# Altium schematic symbol library WE-DPC.SchLib: 29 symbols
Pins are listed as number, name and electrical type; pins without a type are passive.

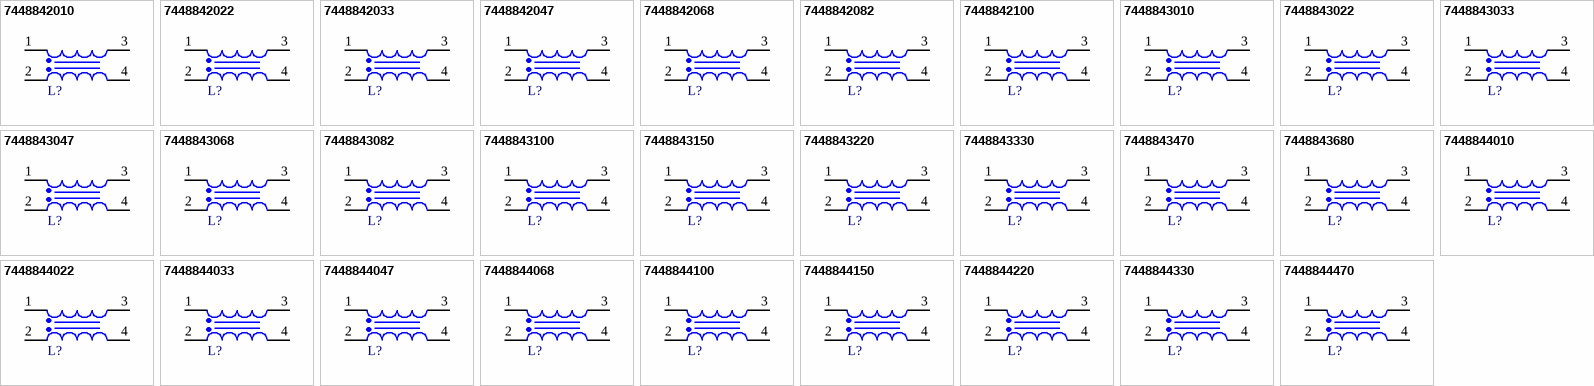
[diagram p0: symbols 7448842010 to 7448844470]

## 7448842010
designator L?, comment 1µH, 1.8A  (value not drawn)
WE-DPC SMT Dual Powerchoke, size 4818, 1µH, 1.8A, 90mΩ; Manufacturer Part Number: 7448842010; Manufacturer: Wurth Elektronik; Case/Size Code: 4818; DC Resistance 1: 75mΩ; Rated Voltage: 80V; Saturation Current: 5A; Self Resonant Frequency: 80MHz; Turns Ratio: 1:1; Category: Coupled Power Inductors; Match Code: WE-DPC; ComponentLink1Description: Website Link; ComponentLink1URL: https://www.we-online.com/redexpert/article/7448842010?ad; ComponentLink2Description: Datasheet Link; ComponentLink2URL: https://www.we-online.com/redexpert/spec/7448842010?ad; Mount: Surface Mount; Operating Temperature Max: 125°C; Operating Temperature Min: -40°C; Packaging: Tape and Reel; Length: 4.8mm; Width: 4.8mm; Height: 1.8mm; DC Resistance 2: 75mΩ; DC Resistance Max 1: 90mΩ; DC Resistance Max 2: 90mΩ; Inductance 1: 1µH; Inductance 2: 1µH; Rated Current 1: 1.8A; Rated Current 2: 1.8A
footprint WE-DPC_4818
pins: 1, 2, 3, 4

## 7448842022
designator L?, comment 2.2µH, 1.68A  (value not drawn)
WE-DPC SMT Dual Powerchoke, size 4818, 2.2µH, 1.68A, 163mΩ; Manufacturer Part Number: 7448842022; Manufacturer: Wurth Elektronik; Case/Size Code: 4818; DC Resistance 1: 135mΩ; Rated Voltage: 80V; Saturation Current: 3.5A; Self Resonant Frequency: 65MHz; Turns Ratio: 1:1; Category: Coupled Power Inductors; Match Code: WE-DPC; ComponentLink1Description: Website Link; ComponentLink1URL: https://www.we-online.com/redexpert/article/7448842022?ad; ComponentLink2Description: Datasheet Link; ComponentLink2URL: https://www.we-online.com/redexpert/spec/7448842022?ad; Mount: Surface Mount; Operating Temperature Max: 125°C; Operating Temperature Min: -40°C; Packaging: Tape and Reel; Length: 4.8mm; Width: 4.8mm; Height: 1.8mm; DC Resistance 2: 135mΩ; DC Resistance Max 1: 163mΩ; DC Resistance Max 2: 163mΩ; Inductance 1: 2.2µH; Inductance 2: 2.2µH; Rated Current 1: 1.68A; Rated Current 2: 1.68A
footprint WE-DPC_4818
pins: 1, 2, 3, 4

## 7448842033
designator L?, comment 3.3µH, 1.3A  (value not drawn)
WE-DPC SMT Dual Powerchoke, size 4818, 3.3µH, 1.3A, 205mΩ; Manufacturer Part Number: 7448842033; Manufacturer: Wurth Elektronik; Case/Size Code: 4818; DC Resistance 1: 170mΩ; Rated Voltage: 80V; Saturation Current: 2.6A; Self Resonant Frequency: 55MHz; Turns Ratio: 1:1; Category: Coupled Power Inductors; Match Code: WE-DPC; ComponentLink1Description: Website Link; ComponentLink1URL: https://www.we-online.com/redexpert/article/7448842033?ad; ComponentLink2Description: Datasheet Link; ComponentLink2URL: https://www.we-online.com/redexpert/spec/7448842033?ad; Mount: Surface Mount; Operating Temperature Max: 125°C; Operating Temperature Min: -40°C; Packaging: Tape and Reel; Length: 4.8mm; Width: 4.8mm; Height: 1.8mm; DC Resistance 2: 170mΩ; DC Resistance Max 1: 205mΩ; DC Resistance Max 2: 205mΩ; Inductance 1: 3.3µH; Inductance 2: 3.3µH; Rated Current 1: 1.3A; Rated Current 2: 1.3A
footprint WE-DPC_4818
pins: 1, 2, 3, 4

## 7448842047
designator L?, comment 4.7µH, 1.1A  (value not drawn)
WE-DPC SMT Dual Powerchoke, size 4818, 4.7µH, 1.1A, 253.5mΩ; Manufacturer Part Number: 7448842047; Manufacturer: Wurth Elektronik; Case/Size Code: 4818; DC Resistance 1: 210mΩ; Rated Voltage: 80V; Saturation Current: 2.25A; Self Resonant Frequency: 47MHz; Turns Ratio: 1:1; Category: Coupled Power Inductors; Match Code: WE-DPC; ComponentLink1Description: Website Link; ComponentLink1URL: https://www.we-online.com/redexpert/article/7448842047?ad; ComponentLink2Description: Datasheet Link; ComponentLink2URL: https://www.we-online.com/redexpert/spec/7448842047?ad; Mount: Surface Mount; Operating Temperature Max: 125°C; Operating Temperature Min: -40°C; Packaging: Tape and Reel; Length: 4.8mm; Width: 4.8mm; Height: 1.8mm; DC Resistance 2: 210mΩ; DC Resistance Max 1: 253.5mΩ; DC Resistance Max 2: 253.5mΩ; Inductance 1: 4.7µH; Inductance 2: 4.7µH; Rated Current 1: 1.1A; Rated Current 2: 1.1A
footprint WE-DPC_4818
pins: 1, 2, 3, 4

## 7448842068
designator L?, comment 6.8µH, 1.05A  (value not drawn)
WE-DPC SMT Dual Powerchoke, size 4818, 6.8µH, 1.05A, 462.5mΩ; Manufacturer Part Number: 7448842068; Manufacturer: Wurth Elektronik; Case/Size Code: 4818; DC Resistance 1: 390mΩ; Rated Voltage: 80V; Saturation Current: 1.9A; Self Resonant Frequency: 41MHz; Turns Ratio: 1:1; Category: Coupled Power Inductors; Match Code: WE-DPC; ComponentLink1Description: Website Link; ComponentLink1URL: https://www.we-online.com/redexpert/article/7448842068?ad; ComponentLink2Description: Datasheet Link; ComponentLink2URL: https://www.we-online.com/redexpert/spec/7448842068?ad; Mount: Surface Mount; Operating Temperature Max: 125°C; Operating Temperature Min: -40°C; Packaging: Tape and Reel; Length: 4.8mm; Width: 4.8mm; Height: 1.8mm; DC Resistance 2: 390mΩ; DC Resistance Max 1: 462.5mΩ; DC Resistance Max 2: 462.5mΩ; Inductance 1: 6.8µH; Inductance 2: 6.8µH; Rated Current 1: 1.05A; Rated Current 2: 1.05A
footprint WE-DPC_4818
pins: 1, 2, 3, 4

## 7448842082
designator L?, comment 8.2µH, 0.9A  (value not drawn)
WE-DPC SMT Dual Powerchoke, size 4818, 8.2µH, 0.9A, 494.5mΩ; Manufacturer Part Number: 7448842082; Manufacturer: Wurth Elektronik; Case/Size Code: 4818; DC Resistance 1: 415mΩ; Rated Voltage: 80V; Saturation Current: 1.7A; Self Resonant Frequency: 38MHz; Turns Ratio: 1:1; Category: Coupled Power Inductors; Match Code: WE-DPC; ComponentLink1Description: Website Link; ComponentLink1URL: https://www.we-online.com/redexpert/article/7448842082?ad; ComponentLink2Description: Datasheet Link; ComponentLink2URL: https://www.we-online.com/redexpert/spec/7448842082?ad; Mount: Surface Mount; Operating Temperature Max: 125°C; Operating Temperature Min: -40°C; Packaging: Tape and Reel; Length: 4.8mm; Width: 4.8mm; Height: 1.8mm; DC Resistance 2: 415mΩ; DC Resistance Max 1: 494.5mΩ; DC Resistance Max 2: 494.5mΩ; Inductance 1: 8.2µH; Inductance 2: 8.2µH; Rated Current 1: 0.9A; Rated Current 2: 0.9A
footprint WE-DPC_4818
pins: 1, 2, 3, 4

## 7448842100
designator L?, comment 10µH, 0.8A  (value not drawn)
WE-DPC SMT Dual Powerchoke, size 4818, 10µH, 0.8A, 562mΩ; Manufacturer Part Number: 7448842100; Manufacturer: Wurth Elektronik; Case/Size Code: 4818; DC Resistance 1: 475mΩ; Rated Voltage: 80V; Saturation Current: 1.6A; Self Resonant Frequency: 35MHz; Turns Ratio: 1:1; Category: Coupled Power Inductors; Match Code: WE-DPC; ComponentLink1Description: Website Link; ComponentLink1URL: https://www.we-online.com/redexpert/article/7448842100?ad; ComponentLink2Description: Datasheet Link; ComponentLink2URL: https://www.we-online.com/redexpert/spec/7448842100?ad; Mount: Surface Mount; Operating Temperature Max: 125°C; Operating Temperature Min: -40°C; Packaging: Tape and Reel; Length: 4.8mm; Width: 4.8mm; Height: 1.8mm; DC Resistance 2: 475mΩ; DC Resistance Max 1: 562mΩ; DC Resistance Max 2: 562mΩ; Inductance 1: 10µH; Inductance 2: 10µH; Rated Current 1: 0.8A; Rated Current 2: 0.8A
footprint WE-DPC_4818
pins: 1, 2, 3, 4

## 7448843010
designator L?, comment 1µH, 2.95A  (value not drawn)
WE-DPC SMT Dual Powerchoke, size 4828, 1µH, 2.95A, 36mΩ; Manufacturer Part Number: 7448843010; Manufacturer: Wurth Elektronik; Case/Size Code: 4828; DC Resistance 1: 30mΩ; Rated Voltage: 80V; Saturation Current: 4.5A; Self Resonant Frequency: 65MHz; Turns Ratio: 1:1; Category: Coupled Power Inductors; Match Code: WE-DPC; ComponentLink1Description: Website Link; ComponentLink1URL: https://www.we-online.com/redexpert/article/7448843010?ad; ComponentLink2Description: Datasheet Link; ComponentLink2URL: https://www.we-online.com/redexpert/spec/7448843010?ad; Mount: Surface Mount; Operating Temperature Max: 125°C; Operating Temperature Min: -40°C; Packaging: Tape and Reel; Length: 4.8mm; Width: 4.8mm; Height: 2.8mm; DC Resistance 2: 30mΩ; DC Resistance Max 1: 36mΩ; DC Resistance Max 2: 36mΩ; Inductance 1: 1µH; Inductance 2: 1µH; Rated Current 1: 2.95A; Rated Current 2: 2.95A
footprint WE-DPC_4828
pins: 1, 2, 3, 4

## 7448843022
designator L?, comment 2.2µH, 2.25A  (value not drawn)
WE-DPC SMT Dual Powerchoke, size 4828, 2.2µH, 2.25A, 53mΩ; Manufacturer Part Number: 7448843022; Manufacturer: Wurth Elektronik; Case/Size Code: 4828; DC Resistance 1: 45mΩ; Rated Voltage: 80V; Saturation Current: 3.2A; Self Resonant Frequency: 50MHz; Turns Ratio: 1:1; Category: Coupled Power Inductors; Match Code: WE-DPC; ComponentLink1Description: Website Link; ComponentLink1URL: https://www.we-online.com/redexpert/article/7448843022?ad; ComponentLink2Description: Datasheet Link; ComponentLink2URL: https://www.we-online.com/redexpert/spec/7448843022?ad; Mount: Surface Mount; Operating Temperature Max: 125°C; Operating Temperature Min: -40°C; Packaging: Tape and Reel; Length: 4.8mm; Width: 4.8mm; Height: 2.8mm; DC Resistance 2: 45mΩ; DC Resistance Max 1: 53mΩ; DC Resistance Max 2: 53mΩ; Inductance 1: 2.2µH; Inductance 2: 2.2µH; Rated Current 1: 2.25A; Rated Current 2: 2.25A
footprint WE-DPC_4828
pins: 1, 2, 3, 4

## 7448843033
designator L?, comment 3.3µH, 1.95A  (value not drawn)
WE-DPC SMT Dual Powerchoke, size 4828, 3.3µH, 1.95A, 80mΩ; Manufacturer Part Number: 7448843033; Manufacturer: Wurth Elektronik; Case/Size Code: 4828; DC Resistance 1: 67mΩ; Rated Voltage: 80V; Saturation Current: 2.75A; Self Resonant Frequency: 45MHz; Turns Ratio: 1:1; Category: Coupled Power Inductors; Match Code: WE-DPC; ComponentLink1Description: Website Link; ComponentLink1URL: https://www.we-online.com/redexpert/article/7448843033?ad; ComponentLink2Description: Datasheet Link; ComponentLink2URL: https://www.we-online.com/redexpert/spec/7448843033?ad; Mount: Surface Mount; Operating Temperature Max: 125°C; Operating Temperature Min: -40°C; Packaging: Tape and Reel; Length: 4.8mm; Width: 4.8mm; Height: 2.8mm; DC Resistance 2: 67mΩ; DC Resistance Max 1: 80mΩ; DC Resistance Max 2: 80mΩ; Inductance 1: 3.3µH; Inductance 2: 3.3µH; Rated Current 1: 1.95A; Rated Current 2: 1.95A
footprint WE-DPC_4828
pins: 1, 2, 3, 4

## 7448843047
designator L?, comment 4.7µH, 1.8A  (value not drawn)
WE-DPC SMT Dual Powerchoke, size 4828, 4.7µH, 1.8A, 100mΩ; Manufacturer Part Number: 7448843047; Manufacturer: Wurth Elektronik; Case/Size Code: 4828; DC Resistance 1: 84mΩ; Rated Voltage: 80V; Saturation Current: 2.7A; Self Resonant Frequency: 35MHz; Turns Ratio: 1:1; Category: Coupled Power Inductors; Match Code: WE-DPC; ComponentLink1Description: Website Link; ComponentLink1URL: https://www.we-online.com/redexpert/article/7448843047?ad; ComponentLink2Description: Datasheet Link; ComponentLink2URL: https://www.we-online.com/redexpert/spec/7448843047?ad; Mount: Surface Mount; Operating Temperature Max: 125°C; Operating Temperature Min: -40°C; Packaging: Tape and Reel; Length: 4.8mm; Width: 4.8mm; Height: 2.8mm; DC Resistance 2: 84mΩ; DC Resistance Max 1: 100mΩ; DC Resistance Max 2: 100mΩ; Inductance 1: 4.7µH; Inductance 2: 4.7µH; Rated Current 1: 1.8A; Rated Current 2: 1.8A
footprint WE-DPC_4828
pins: 1, 2, 3, 4

## 7448843068
designator L?, comment 6.8µH, 1.5A  (value not drawn)
WE-DPC SMT Dual Powerchoke, size 4828, 6.8µH, 1.5A, 137mΩ; Manufacturer Part Number: 7448843068; Manufacturer: Wurth Elektronik; Case/Size Code: 4828; DC Resistance 1: 115mΩ; Rated Voltage: 80V; Saturation Current: 2A; Self Resonant Frequency: 32MHz; Turns Ratio: 1:1; Category: Coupled Power Inductors; Match Code: WE-DPC; ComponentLink1Description: Website Link; ComponentLink1URL: https://www.we-online.com/redexpert/article/7448843068?ad; ComponentLink2Description: Datasheet Link; ComponentLink2URL: https://www.we-online.com/redexpert/spec/7448843068?ad; Mount: Surface Mount; Operating Temperature Max: 125°C; Operating Temperature Min: -40°C; Packaging: Tape and Reel; Length: 4.8mm; Width: 4.8mm; Height: 2.8mm; DC Resistance 2: 115mΩ; DC Resistance Max 1: 137mΩ; DC Resistance Max 2: 137mΩ; Inductance 1: 6.8µH; Inductance 2: 6.8µH; Rated Current 1: 1.5A; Rated Current 2: 1.5A
footprint WE-DPC_4828
pins: 1, 2, 3, 4

## 7448843082
designator L?, comment 8.2µH, 1.15A  (value not drawn)
WE-DPC SMT Dual Powerchoke, size 4828, 8.2µH, 1.15A, 216mΩ; Manufacturer Part Number: 7448843082; Manufacturer: Wurth Elektronik; Case/Size Code: 4828; DC Resistance 1: 180mΩ; Rated Voltage: 80V; Saturation Current: 1.7A; Self Resonant Frequency: 27MHz; Turns Ratio: 1:1; Category: Coupled Power Inductors; Match Code: WE-DPC; ComponentLink1Description: Website Link; ComponentLink1URL: https://www.we-online.com/redexpert/article/7448843082?ad; ComponentLink2Description: Datasheet Link; ComponentLink2URL: https://www.we-online.com/redexpert/spec/7448843082?ad; Mount: Surface Mount; Operating Temperature Max: 125°C; Operating Temperature Min: -40°C; Packaging: Tape and Reel; Length: 4.8mm; Width: 4.8mm; Height: 2.8mm; DC Resistance 2: 180mΩ; DC Resistance Max 1: 216mΩ; DC Resistance Max 2: 216mΩ; Inductance 1: 8.2µH; Inductance 2: 8.2µH; Rated Current 1: 1.15A; Rated Current 2: 1.15A
footprint WE-DPC_4828
pins: 1, 2, 3, 4

## 7448843100
designator L?, comment 10µH, 1.08A  (value not drawn)
WE-DPC SMT Dual Powerchoke, size 4828, 10µH, 1.08A, 248mΩ; Manufacturer Part Number: 7448843100; Manufacturer: Wurth Elektronik; Case/Size Code: 4828; DC Resistance 1: 205mΩ; Rated Voltage: 80V; Saturation Current: 1.5A; Self Resonant Frequency: 24MHz; Turns Ratio: 1:1; Category: Coupled Power Inductors; Match Code: WE-DPC; ComponentLink1Description: Website Link; ComponentLink1URL: https://www.we-online.com/redexpert/article/7448843100?ad; ComponentLink2Description: Datasheet Link; ComponentLink2URL: https://www.we-online.com/redexpert/spec/7448843100?ad; Mount: Surface Mount; Operating Temperature Max: 125°C; Operating Temperature Min: -40°C; Packaging: Tape and Reel; Length: 4.8mm; Width: 4.8mm; Height: 2.8mm; DC Resistance 2: 205mΩ; DC Resistance Max 1: 248mΩ; DC Resistance Max 2: 248mΩ; Inductance 1: 10µH; Inductance 2: 10µH; Rated Current 1: 1.08A; Rated Current 2: 1.08A
footprint WE-DPC_4828
pins: 1, 2, 3, 4

## 7448843150
designator L?, comment 15µH, 1A  (value not drawn)
WE-DPC SMT Dual Powerchoke, size 4828, 15µH, 1A, 321mΩ; Manufacturer Part Number: 7448843150; Manufacturer: Wurth Elektronik; Case/Size Code: 4828; DC Resistance 1: 265mΩ; Rated Voltage: 80V; Saturation Current: 1.2A; Self Resonant Frequency: 20MHz; Turns Ratio: 1:1; Category: Coupled Power Inductors; Match Code: WE-DPC; ComponentLink1Description: Website Link; ComponentLink1URL: https://www.we-online.com/redexpert/article/7448843150?ad; ComponentLink2Description: Datasheet Link; ComponentLink2URL: https://www.we-online.com/redexpert/spec/7448843150?ad; Mount: Surface Mount; Operating Temperature Max: 125°C; Operating Temperature Min: -40°C; Packaging: Tape and Reel; Length: 4.8mm; Width: 4.8mm; Height: 2.8mm; DC Resistance 2: 265mΩ; DC Resistance Max 1: 321mΩ; DC Resistance Max 2: 321mΩ; Inductance 1: 15µH; Inductance 2: 15µH; Rated Current 1: 1A; Rated Current 2: 1A
footprint WE-DPC_4828
pins: 1, 2, 3, 4

## 7448843220
designator L?, comment 22µH, 0.78A  (value not drawn)
WE-DPC SMT Dual Powerchoke, size 4828, 22µH, 0.78A, 455mΩ; Manufacturer Part Number: 7448843220; Manufacturer: Wurth Elektronik; Case/Size Code: 4828; DC Resistance 1: 382mΩ; Rated Voltage: 80V; Saturation Current: 1A; Self Resonant Frequency: 16MHz; Turns Ratio: 1:1; Category: Coupled Power Inductors; Match Code: WE-DPC; ComponentLink1Description: Website Link; ComponentLink1URL: https://www.we-online.com/redexpert/article/7448843220?ad; ComponentLink2Description: Datasheet Link; ComponentLink2URL: https://www.we-online.com/redexpert/spec/7448843220?ad; Mount: Surface Mount; Operating Temperature Max: 125°C; Operating Temperature Min: -40°C; Packaging: Tape and Reel; Length: 4.8mm; Width: 4.8mm; Height: 2.8mm; DC Resistance 2: 382mΩ; DC Resistance Max 1: 455mΩ; DC Resistance Max 2: 455mΩ; Inductance 1: 22µH; Inductance 2: 22µH; Rated Current 1: 0.78A; Rated Current 2: 0.78A
footprint WE-DPC_4828
pins: 1, 2, 3, 4

## 7448843330
designator L?, comment 33µH, 0.65A  (value not drawn)
WE-DPC SMT Dual Powerchoke, size 4828, 33µH, 0.65A, 667mΩ; Manufacturer Part Number: 7448843330; Manufacturer: Wurth Elektronik; Case/Size Code: 4828; DC Resistance 1: 560mΩ; Rated Voltage: 80V; Saturation Current: 0.9A; Self Resonant Frequency: 12MHz; Turns Ratio: 1:1; Category: Coupled Power Inductors; Match Code: WE-DPC; ComponentLink1Description: Website Link; ComponentLink1URL: https://www.we-online.com/redexpert/article/7448843330?ad; ComponentLink2Description: Datasheet Link; ComponentLink2URL: https://www.we-online.com/redexpert/spec/7448843330?ad; Mount: Surface Mount; Operating Temperature Max: 125°C; Operating Temperature Min: -40°C; Packaging: Tape and Reel; Length: 4.8mm; Width: 4.8mm; Height: 2.8mm; DC Resistance 2: 560mΩ; DC Resistance Max 1: 667mΩ; DC Resistance Max 2: 667mΩ; Inductance 1: 33µH; Inductance 2: 33µH; Rated Current 1: 0.65A; Rated Current 2: 0.65A
footprint WE-DPC_4828
pins: 1, 2, 3, 4

## 7448843470
designator L?, comment 47µH, 0.54A  (value not drawn)
WE-DPC SMT Dual Powerchoke, size 4828, 47µH, 0.54A, 959mΩ; Manufacturer Part Number: 7448843470; Manufacturer: Wurth Elektronik; Case/Size Code: 4828; DC Resistance 1: 800mΩ; Rated Voltage: 80V; Saturation Current: 0.7A; Self Resonant Frequency: 10MHz; Turns Ratio: 1:1; Category: Coupled Power Inductors; Match Code: WE-DPC; ComponentLink1Description: Website Link; ComponentLink1URL: https://www.we-online.com/redexpert/article/7448843470?ad; ComponentLink2Description: Datasheet Link; ComponentLink2URL: https://www.we-online.com/redexpert/spec/7448843470?ad; Mount: Surface Mount; Operating Temperature Max: 125°C; Operating Temperature Min: -40°C; Packaging: Tape and Reel; Length: 4.8mm; Width: 4.8mm; Height: 2.8mm; DC Resistance 2: 800mΩ; DC Resistance Max 1: 959mΩ; DC Resistance Max 2: 959mΩ; Inductance 1: 47µH; Inductance 2: 47µH; Rated Current 1: 0.54A; Rated Current 2: 0.54A
footprint WE-DPC_4828
pins: 1, 2, 3, 4

## 7448843680
designator L?, comment 68µH, 0.45A  (value not drawn)
WE-DPC SMT Dual Powerchoke, size 4828, 68µH, 0.45A, 1400mΩ; Manufacturer Part Number: 7448843680; Manufacturer: Wurth Elektronik; Case/Size Code: 4828; DC Resistance 1: 1160mΩ; Rated Voltage: 80V; Saturation Current: 0.65A; Self Resonant Frequency: 9MHz; Turns Ratio: 1:1; Category: Coupled Power Inductors; Match Code: WE-DPC; ComponentLink1Description: Website Link; ComponentLink1URL: https://www.we-online.com/redexpert/article/7448843680?ad; ComponentLink2Description: Datasheet Link; ComponentLink2URL: https://www.we-online.com/redexpert/spec/7448843680?ad; Mount: Surface Mount; Operating Temperature Max: 125°C; Operating Temperature Min: -40°C; Packaging: Tape and Reel; Length: 4.8mm; Width: 4.8mm; Height: 2.8mm; DC Resistance 2: 1160mΩ; DC Resistance Max 1: 1400mΩ; DC Resistance Max 2: 1400mΩ; Inductance 1: 68µH; Inductance 2: 68µH; Rated Current 1: 0.45A; Rated Current 2: 0.45A
footprint WE-DPC_4828
pins: 1, 2, 3, 4

## 7448844010
designator L?, comment 1µH, 4.5A  (value not drawn)
WE-DPC SMT Dual Powerchoke, size 5838, 1µH, 4.5A, 35mΩ; Manufacturer Part Number: 7448844010; Manufacturer: Wurth Elektronik; Case/Size Code: 5838; DC Resistance 1: 25mΩ; Rated Voltage: 80V; Saturation Current: 5A; Self Resonant Frequency: 150MHz; Turns Ratio: 1:1; Category: Coupled Power Inductors; Match Code: WE-DPC; ComponentLink1Description: Website Link; ComponentLink1URL: https://www.we-online.com/redexpert/article/7448844010?ad; ComponentLink2Description: Datasheet Link; ComponentLink2URL: https://www.we-online.com/redexpert/spec/7448844010?ad; Mount: Surface Mount; Operating Temperature Max: 125°C; Operating Temperature Min: -40°C; Packaging: Tape and Reel; Length: 6mm; Width: 6mm; Height: 4.1mm; DC Resistance 2: 25mΩ; DC Resistance Max 1: 35mΩ; DC Resistance Max 2: 35mΩ; Inductance 1: 1µH; Inductance 2: 1µH; Rated Current 1: 4.5A; Rated Current 2: 4.5A
footprint WE-DPC_5838
simulation model 5838_7448844010_1u
pins: 1, 2, 3, 4

## 7448844022
designator L?, comment 2.2µH, 3.9A  (value not drawn)
WE-DPC SMT Dual Powerchoke, size 5838, 2.2µH, 3.9A, 47mΩ; Manufacturer Part Number: 7448844022; Manufacturer: Wurth Elektronik; Case/Size Code: 5838; DC Resistance 1: 33mΩ; Rated Voltage: 80V; Saturation Current: 3.4A; Self Resonant Frequency: 80MHz; Turns Ratio: 1:1; Category: Coupled Power Inductors; Match Code: WE-DPC; ComponentLink1Description: Website Link; ComponentLink1URL: https://www.we-online.com/redexpert/article/7448844022?ad; ComponentLink2Description: Datasheet Link; ComponentLink2URL: https://www.we-online.com/redexpert/spec/7448844022?ad; Mount: Surface Mount; Operating Temperature Max: 125°C; Operating Temperature Min: -40°C; Packaging: Tape and Reel; Length: 6mm; Width: 6mm; Height: 4.1mm; DC Resistance 2: 33mΩ; DC Resistance Max 1: 47mΩ; DC Resistance Max 2: 47mΩ; Inductance 1: 2.2µH; Inductance 2: 2.2µH; Rated Current 1: 3.9A; Rated Current 2: 3.9A
footprint WE-DPC_5838
simulation model 5838_7448844022_2.2u
pins: 1, 2, 3, 4

## 7448844033
designator L?, comment 3.3µH, 3.5A  (value not drawn)
WE-DPC SMT Dual Powerchoke, size 5838, 3.3µH, 3.5A, 57mΩ; Manufacturer Part Number: 7448844033; Manufacturer: Wurth Elektronik; Case/Size Code: 5838; DC Resistance 1: 40mΩ; Rated Voltage: 80V; Saturation Current: 2.5A; Self Resonant Frequency: 56MHz; Turns Ratio: 1:1; Category: Coupled Power Inductors; Match Code: WE-DPC; ComponentLink1Description: Website Link; ComponentLink1URL: https://www.we-online.com/redexpert/article/7448844033?ad; ComponentLink2Description: Datasheet Link; ComponentLink2URL: https://www.we-online.com/redexpert/spec/7448844033?ad; Mount: Surface Mount; Operating Temperature Max: 125°C; Operating Temperature Min: -40°C; Packaging: Tape and Reel; Length: 6mm; Width: 6mm; Height: 4.1mm; DC Resistance 2: 40mΩ; DC Resistance Max 1: 57mΩ; DC Resistance Max 2: 57mΩ; Inductance 1: 3.3µH; Inductance 2: 3.3µH; Rated Current 1: 3.5A; Rated Current 2: 3.5A
footprint WE-DPC_5838
simulation model 5838_7448844033_3.3u
pins: 1, 2, 3, 4

## 7448844047
designator L?, comment 4.7µH, 3.1A  (value not drawn)
WE-DPC SMT Dual Powerchoke, size 5838, 4.7µH, 3.1A, 62mΩ; Manufacturer Part Number: 7448844047; Manufacturer: Wurth Elektronik; Case/Size Code: 5838; DC Resistance 1: 44mΩ; Rated Voltage: 80V; Saturation Current: 2.1A; Self Resonant Frequency: 46MHz; Turns Ratio: 1:1; Category: Coupled Power Inductors; Match Code: WE-DPC; ComponentLink1Description: Website Link; ComponentLink1URL: https://www.we-online.com/redexpert/article/7448844047?ad; ComponentLink2Description: Datasheet Link; ComponentLink2URL: https://www.we-online.com/redexpert/spec/7448844047?ad; Mount: Surface Mount; Operating Temperature Max: 125°C; Operating Temperature Min: -40°C; Packaging: Tape and Reel; Length: 6mm; Width: 6mm; Height: 4.1mm; DC Resistance 2: 44mΩ; DC Resistance Max 1: 62mΩ; DC Resistance Max 2: 62mΩ; Inductance 1: 4.7µH; Inductance 2: 4.7µH; Rated Current 1: 3.1A; Rated Current 2: 3.1A
footprint WE-DPC_5838
simulation model 5838_7448844047_4.7u
pins: 1, 2, 3, 4

## 7448844068
designator L?, comment 6.8µH, 2.3A  (value not drawn)
WE-DPC SMT Dual Powerchoke, size 5838, 6.8µH, 2.3A, 85mΩ; Manufacturer Part Number: 7448844068; Manufacturer: Wurth Elektronik; Case/Size Code: 5838; DC Resistance 1: 60mΩ; Rated Voltage: 80V; Saturation Current: 1.8A; Self Resonant Frequency: 42MHz; Turns Ratio: 1:1; Category: Coupled Power Inductors; Match Code: WE-DPC; ComponentLink1Description: Website Link; ComponentLink1URL: https://www.we-online.com/redexpert/article/7448844068?ad; ComponentLink2Description: Datasheet Link; ComponentLink2URL: https://www.we-online.com/redexpert/spec/7448844068?ad; Mount: Surface Mount; Operating Temperature Max: 125°C; Operating Temperature Min: -40°C; Packaging: Tape and Reel; Length: 6mm; Width: 6mm; Height: 4.1mm; DC Resistance 2: 60mΩ; DC Resistance Max 1: 85mΩ; DC Resistance Max 2: 85mΩ; Inductance 1: 6.8µH; Inductance 2: 6.8µH; Rated Current 1: 2.3A; Rated Current 2: 2.3A
footprint WE-DPC_5838
simulation model 5838_7448844068_6.8u
pins: 1, 2, 3, 4

## 7448844100
designator L?, comment 10µH, 2A  (value not drawn)
WE-DPC SMT Dual Powerchoke, size 5838, 10µH, 2A, 100mΩ; Manufacturer Part Number: 7448844100; Manufacturer: Wurth Elektronik; Case/Size Code: 5838; DC Resistance 1: 70mΩ; Rated Voltage: 80V; Saturation Current: 1.6A; Self Resonant Frequency: 34MHz; Turns Ratio: 1:1; Category: Coupled Power Inductors; Match Code: WE-DPC; ComponentLink1Description: Website Link; ComponentLink1URL: https://www.we-online.com/redexpert/article/7448844100?ad; ComponentLink2Description: Datasheet Link; ComponentLink2URL: https://www.we-online.com/redexpert/spec/7448844100?ad; Mount: Surface Mount; Operating Temperature Max: 125°C; Operating Temperature Min: -40°C; Packaging: Tape and Reel; Length: 6mm; Width: 6mm; Height: 4.1mm; DC Resistance 2: 70mΩ; DC Resistance Max 1: 100mΩ; DC Resistance Max 2: 100mΩ; Inductance 1: 10µH; Inductance 2: 10µH; Rated Current 1: 2A; Rated Current 2: 2A
footprint WE-DPC_5838
simulation model 5838_7448844100_10u
pins: 1, 2, 3, 4

## 7448844150
designator L?, comment 15µH, 1.8A  (value not drawn)
WE-DPC SMT Dual Powerchoke, size 5838, 15µH, 1.8A, 120mΩ; Manufacturer Part Number: 7448844150; Manufacturer: Wurth Elektronik; Case/Size Code: 5838; DC Resistance 1: 84mΩ; Rated Voltage: 80V; Saturation Current: 1.4A; Self Resonant Frequency: 28MHz; Turns Ratio: 1:1; Category: Coupled Power Inductors; Match Code: WE-DPC; ComponentLink1Description: Website Link; ComponentLink1URL: https://www.we-online.com/redexpert/article/7448844150?ad; ComponentLink2Description: Datasheet Link; ComponentLink2URL: https://www.we-online.com/redexpert/spec/7448844150?ad; Mount: Surface Mount; Operating Temperature Max: 125°C; Operating Temperature Min: -40°C; Packaging: Tape and Reel; Length: 6mm; Width: 6mm; Height: 4.1mm; DC Resistance 2: 84mΩ; DC Resistance Max 1: 120mΩ; DC Resistance Max 2: 120mΩ; Inductance 1: 15µH; Inductance 2: 15µH; Rated Current 1: 1.8A; Rated Current 2: 1.8A
footprint WE-DPC_5838
simulation model 5838_7448844150_15u
pins: 1, 2, 3, 4

## 7448844220
designator L?, comment 22µH, 1.2A  (value not drawn)
WE-DPC SMT Dual Powerchoke, size 5838, 22µH, 1.2A, 220mΩ; Manufacturer Part Number: 7448844220; Manufacturer: Wurth Elektronik; Case/Size Code: 5838; DC Resistance 1: 154mΩ; Rated Voltage: 80V; Saturation Current: 1.3A; Self Resonant Frequency: 19MHz; Turns Ratio: 1:1; Category: Coupled Power Inductors; Match Code: WE-DPC; ComponentLink1Description: Website Link; ComponentLink1URL: https://www.we-online.com/redexpert/article/7448844220?ad; ComponentLink2Description: Datasheet Link; ComponentLink2URL: https://www.we-online.com/redexpert/spec/7448844220?ad; Mount: Surface Mount; Operating Temperature Max: 125°C; Operating Temperature Min: -40°C; Packaging: Tape and Reel; Length: 6mm; Width: 6mm; Height: 4.1mm; DC Resistance 2: 154mΩ; DC Resistance Max 1: 220mΩ; DC Resistance Max 2: 220mΩ; Inductance 1: 22µH; Inductance 2: 22µH; Rated Current 1: 1.2A; Rated Current 2: 1.2A
footprint WE-DPC_5838
simulation model 5838_7448844220_22u
pins: 1, 2, 3, 4

## 7448844330
designator L?, comment 33µH, 1A  (value not drawn)
WE-DPC SMT Dual Powerchoke, size 5838, 33µH, 1A, 240mΩ; Manufacturer Part Number: 7448844330; Manufacturer: Wurth Elektronik; Case/Size Code: 5838; DC Resistance 1: 168mΩ; Rated Voltage: 80V; Saturation Current: 0.9A; Self Resonant Frequency: 14MHz; Turns Ratio: 1:1; Category: Coupled Power Inductors; Match Code: WE-DPC; ComponentLink1Description: Website Link; ComponentLink1URL: https://www.we-online.com/redexpert/article/7448844330?ad; ComponentLink2Description: Datasheet Link; ComponentLink2URL: https://www.we-online.com/redexpert/spec/7448844330?ad; Mount: Surface Mount; Operating Temperature Max: 125°C; Operating Temperature Min: -40°C; Packaging: Tape and Reel; Length: 6mm; Width: 6mm; Height: 4.1mm; DC Resistance 2: 168mΩ; DC Resistance Max 1: 240mΩ; DC Resistance Max 2: 240mΩ; Inductance 1: 33µH; Inductance 2: 33µH; Rated Current 1: 1A; Rated Current 2: 1A
footprint WE-DPC_5838
simulation model 5838_7448844330_33u
pins: 1, 2, 3, 4

## 7448844470
designator L?, comment 47µH, 0.9A  (value not drawn)
WE-DPC SMT Dual Powerchoke, size 5838, 47µH, 0.9A, 350mΩ; Manufacturer Part Number: 7448844470; Manufacturer: Wurth Elektronik; Case/Size Code: 5838; DC Resistance 1: 245mΩ; Rated Voltage: 80V; Saturation Current: 0.7A; Self Resonant Frequency: 12MHz; Turns Ratio: 1:1; Category: Coupled Power Inductors; Match Code: WE-DPC; ComponentLink1Description: Website Link; ComponentLink1URL: https://www.we-online.com/redexpert/article/7448844470?ad; ComponentLink2Description: Datasheet Link; ComponentLink2URL: https://www.we-online.com/redexpert/spec/7448844470?ad; Mount: Surface Mount; Operating Temperature Max: 125°C; Operating Temperature Min: -40°C; Packaging: Tape and Reel; Length: 6mm; Width: 6mm; Height: 4.1mm; DC Resistance 2: 245mΩ; DC Resistance Max 1: 350mΩ; DC Resistance Max 2: 350mΩ; Inductance 1: 47µH; Inductance 2: 47µH; Rated Current 1: 0.9A; Rated Current 2: 0.9A
footprint WE-DPC_5838
simulation model 5838_7448844470_47u
pins: 1, 2, 3, 4